# Altium schematic symbol library RC0603.SchLib: 789 symbols (part 11 of 11)
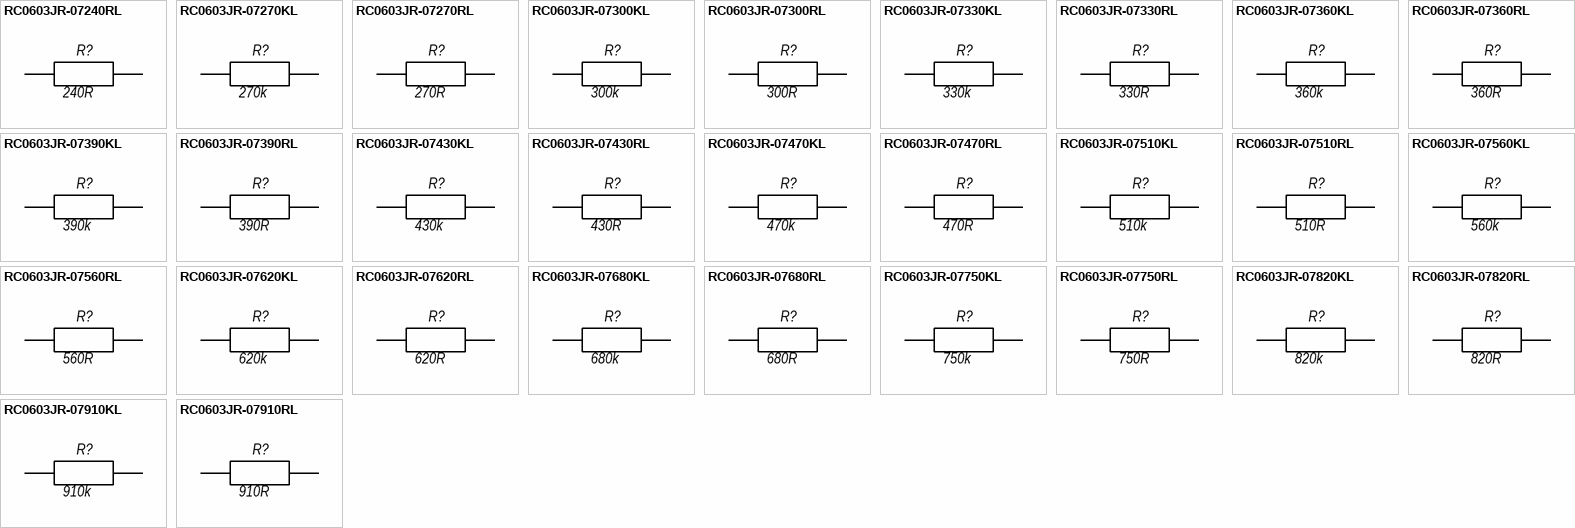
[diagram p29: symbols RC0603JR-07240RL to RC0603JR-07910RL]

## RC0603JR-07620KL
designator R?, comment 620k
RC0603JR-07620KL 0603 620 kOhm ±5% 1/10W 0603 SMD -55C...+155C; Manufacturer: Yageo; BOM2: 620 кОм ±5%, 1/10 Вт, SMD 0603, RC0603JR-07620KL; ValueBOM: RC0603JR-07620KL   Yageo                            (620 кОм ±5%, 1/10 Вт, SMD 0603, RC0603JR-07620KL); Value: 620k; Part Number: RC0603JR-07620KL; Package: 0603; BOM1: 620 kOhm ±5% 1/10W 0603 SMD
footprint RESC_0603_1608N (Chip Resistor, Body 1.6x0.8mm, IPC Medium Density)
footprint RESC_0603_1608M (Chip Resistor, Body 1.6x0.8mm, IPC Low Density)
footprint RESC_0603_1608L (Chip Resistor, Body 1.6x0.8mm, IPC High Density)
pins: 1, 2

## RC0603JR-07620RL
designator R?, comment 620R
RC0603JR-07620RL 0603 620 Ohm ±5% 1/10W 0603 SMD -55C...+155C; Manufacturer: Yageo; BOM2: 620 Ом ±5%, 1/10 Вт, SMD 0603, RC0603JR-07620RL; ValueBOM: RC0603JR-07620RL   Yageo                            (620 Ом ±5%, 1/10 Вт, SMD 0603, RC0603JR-07620RL); Value: 620R; Part Number: RC0603JR-07620RL; Package: 0603; BOM1: 620 Ohm ±5% 1/10W 0603 SMD
footprint RESC_0603_1608N (Chip Resistor, Body 1.6x0.8mm, IPC Medium Density)
footprint RESC_0603_1608M (Chip Resistor, Body 1.6x0.8mm, IPC Low Density)
footprint RESC_0603_1608L (Chip Resistor, Body 1.6x0.8mm, IPC High Density)
pins: 1, 2

## RC0603JR-07680KL
designator R?, comment 680k
RC0603JR-07680KL 0603 680 kOhm ±5% 1/10W 0603 SMD -55C...+155C; Manufacturer: Yageo; BOM2: 680 кОм ±5%, 1/10 Вт, SMD 0603, RC0603JR-07680KL; ValueBOM: RC0603JR-07680KL   Yageo                            (680 кОм ±5%, 1/10 Вт, SMD 0603, RC0603JR-07680KL); Value: 680k; Part Number: RC0603JR-07680KL; Package: 0603; BOM1: 680 kOhm ±5% 1/10W 0603 SMD
footprint RESC_0603_1608N (Chip Resistor, Body 1.6x0.8mm, IPC Medium Density)
footprint RESC_0603_1608M (Chip Resistor, Body 1.6x0.8mm, IPC Low Density)
footprint RESC_0603_1608L (Chip Resistor, Body 1.6x0.8mm, IPC High Density)
pins: 1, 2

## RC0603JR-07680RL
designator R?, comment 680R
RC0603JR-07680RL 0603 680 Ohm ±5% 1/10W 0603 SMD -55C...+155C; Manufacturer: Yageo; BOM2: 680 Ом ±5%, 1/10 Вт, SMD 0603, RC0603JR-07680RL; ValueBOM: RC0603JR-07680RL   Yageo                            (680 Ом ±5%, 1/10 Вт, SMD 0603, RC0603JR-07680RL); Value: 680R; Part Number: RC0603JR-07680RL; Package: 0603; BOM1: 680 Ohm ±5% 1/10W 0603 SMD
footprint RESC_0603_1608N (Chip Resistor, Body 1.6x0.8mm, IPC Medium Density)
footprint RESC_0603_1608M (Chip Resistor, Body 1.6x0.8mm, IPC Low Density)
footprint RESC_0603_1608L (Chip Resistor, Body 1.6x0.8mm, IPC High Density)
pins: 1, 2

## RC0603JR-07750KL
designator R?, comment 750k
RC0603JR-07750KL 0603 750 kOhm ±5% 1/10W 0603 SMD -55C...+155C; Manufacturer: Yageo; BOM2: 750 кОм ±5%, 1/10 Вт, SMD 0603, RC0603JR-07750KL; ValueBOM: RC0603JR-07750KL   Yageo                            (750 кОм ±5%, 1/10 Вт, SMD 0603, RC0603JR-07750KL); Value: 750k; Part Number: RC0603JR-07750KL; Package: 0603; BOM1: 750 kOhm ±5% 1/10W 0603 SMD
footprint RESC_0603_1608N (Chip Resistor, Body 1.6x0.8mm, IPC Medium Density)
footprint RESC_0603_1608M (Chip Resistor, Body 1.6x0.8mm, IPC Low Density)
footprint RESC_0603_1608L (Chip Resistor, Body 1.6x0.8mm, IPC High Density)
pins: 1, 2

## RC0603JR-07750RL
designator R?, comment 750R
RC0603JR-07750RL 0603 750 Ohm ±5% 1/10W 0603 SMD -55C...+155C; Manufacturer: Yageo; BOM2: 750 Ом ±5%, 1/10 Вт, SMD 0603, RC0603JR-07750RL; ValueBOM: RC0603JR-07750RL   Yageo                            (750 Ом ±5%, 1/10 Вт, SMD 0603, RC0603JR-07750RL); Value: 750R; Part Number: RC0603JR-07750RL; Package: 0603; BOM1: 750 Ohm ±5% 1/10W 0603 SMD
footprint RESC_0603_1608N (Chip Resistor, Body 1.6x0.8mm, IPC Medium Density)
footprint RESC_0603_1608M (Chip Resistor, Body 1.6x0.8mm, IPC Low Density)
footprint RESC_0603_1608L (Chip Resistor, Body 1.6x0.8mm, IPC High Density)
pins: 1, 2

## RC0603JR-07820KL
designator R?, comment 820k
RC0603JR-07820KL 0603 820 kOhm ±5% 1/10W 0603 SMD -55C...+155C; Manufacturer: Yageo; BOM2: 820 кОм ±5%, 1/10 Вт, SMD 0603, RC0603JR-07820KL; ValueBOM: RC0603JR-07820KL   Yageo                            (820 кОм ±5%, 1/10 Вт, SMD 0603, RC0603JR-07820KL); Value: 820k; Part Number: RC0603JR-07820KL; Package: 0603; BOM1: 820 kOhm ±5% 1/10W 0603 SMD
footprint RESC_0603_1608N (Chip Resistor, Body 1.6x0.8mm, IPC Medium Density)
footprint RESC_0603_1608M (Chip Resistor, Body 1.6x0.8mm, IPC Low Density)
footprint RESC_0603_1608L (Chip Resistor, Body 1.6x0.8mm, IPC High Density)
pins: 1, 2

## RC0603JR-07820RL
designator R?, comment 820R
RC0603JR-07820RL 0603 820 Ohm ±5% 1/10W 0603 SMD -55C...+155C; Manufacturer: Yageo; BOM2: 820 Ом ±5%, 1/10 Вт, SMD 0603, RC0603JR-07820RL; ValueBOM: RC0603JR-07820RL   Yageo                            (820 Ом ±5%, 1/10 Вт, SMD 0603, RC0603JR-07820RL); Value: 820R; Part Number: RC0603JR-07820RL; Package: 0603; BOM1: 820 Ohm ±5% 1/10W 0603 SMD
footprint RESC_0603_1608N (Chip Resistor, Body 1.6x0.8mm, IPC Medium Density)
footprint RESC_0603_1608M (Chip Resistor, Body 1.6x0.8mm, IPC Low Density)
footprint RESC_0603_1608L (Chip Resistor, Body 1.6x0.8mm, IPC High Density)
pins: 1, 2

## RC0603JR-07910KL
designator R?, comment 910k
RC0603JR-07910KL 0603 910 kOhm ±5% 1/10W 0603 SMD -55C...+155C; Manufacturer: Yageo; BOM2: 910 кОм ±5%, 1/10 Вт, SMD 0603, RC0603JR-07910KL; ValueBOM: RC0603JR-07910KL   Yageo                            (910 кОм ±5%, 1/10 Вт, SMD 0603, RC0603JR-07910KL); Value: 910k; Part Number: RC0603JR-07910KL; Package: 0603; BOM1: 910 kOhm ±5% 1/10W 0603 SMD
footprint RESC_0603_1608N (Chip Resistor, Body 1.6x0.8mm, IPC Medium Density)
footprint RESC_0603_1608M (Chip Resistor, Body 1.6x0.8mm, IPC Low Density)
footprint RESC_0603_1608L (Chip Resistor, Body 1.6x0.8mm, IPC High Density)
pins: 1, 2

## RC0603JR-07910RL
designator R?, comment 910R
RC0603JR-07910RL 0603 910 Ohm ±5% 1/10W 0603 SMD -55C...+155C; Manufacturer: Yageo; BOM2: 910 Ом ±5%, 1/10 Вт, SMD 0603, RC0603JR-07910RL; ValueBOM: RC0603JR-07910RL   Yageo                            (910 Ом ±5%, 1/10 Вт, SMD 0603, RC0603JR-07910RL); Value: 910R; Part Number: RC0603JR-07910RL; Package: 0603; BOM1: 910 Ohm ±5% 1/10W 0603 SMD
footprint RESC_0603_1608N (Chip Resistor, Body 1.6x0.8mm, IPC Medium Density)
footprint RESC_0603_1608M (Chip Resistor, Body 1.6x0.8mm, IPC Low Density)
footprint RESC_0603_1608L (Chip Resistor, Body 1.6x0.8mm, IPC High Density)
pins: 1, 2